# EAGLE library part NC5 (library con-neutrik_ag)
Neutrik Audio Connector XLR SERIES Stereo 1/4" jack Source: www.neutrik.com/
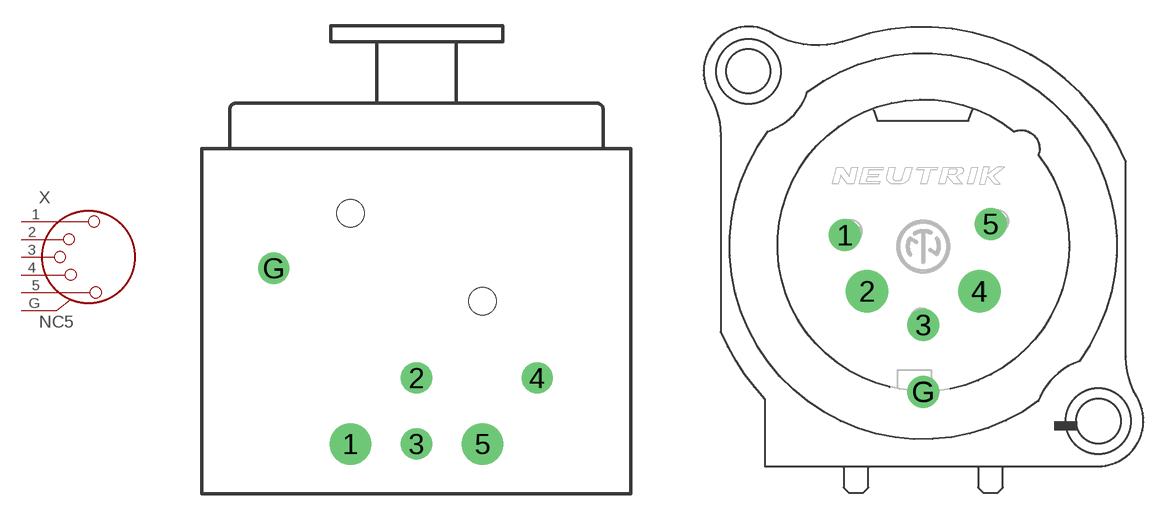
[diagram p1: symbol with the pads of NC5FAH; footprints NC5FAH, NC5MAV]

Designator prefix X

## NC5FAH (MF: FARNELL; MPN: NC5FAH; OC_FARNELL: 8020418; OC_NEWARK: 38K6010)  [NC5FAH]
1  1  pas
2  2  pas
3  3  pas
4  4  pas
5  5  pas
G  G  pas

## NC5MAV (MPN: NC5MAV; OC_FARNELL: unknown; OC_NEWARK: 86C7397)  [NC5MAV]
Pads as for NC5FAH

## NC5FBH (MPN: NC5FBH; OC_FARNELL: 8314616; OC_NEWARK: 73C3494)  [NC5FBH]
Pads as for NC5FAH

## NC5FBH-B (OC_FARNELL: unknown; OC_NEWARK: unknown)  [NC5FBH-B]
Pads as for NC5FAH

## NC5FBV (MPN: NC5FBV; OC_FARNELL: 8314632; OC_NEWARK: 87K0089)  [NC5FBV]
Pads as for NC5FAH

## NC5FGV-B (OC_FARNELL: unknown; OC_NEWARK: unknown)  [NC5FBV-B]
Pads as for NC5FAH

## NC5MAH (MF: FARNELL; MPN: NC5MAH; OC_FARNELL: 8020396; OC_NEWARK: 38K6012)  [NC5MAH]
Pads as for NC5FAH

## NC5MBH (MPN: NC5MBH; OC_FARNELL: 8314624; OC_NEWARK: 92K7339)  [NC5MBH]
Pads as for NC5FAH

## NC5MBN-B (OC_FARNELL: unknown; OC_NEWARK: unknown)  [NC5MBH-B]
Pads as for NC5FAH

## NC5MBV (MPN: NC5MBV; OC_FARNELL: 8314640; OC_NEWARK: 92K7340)  [NC5MBV]
Pads as for NC5FAH

## NC5FAV (MPN: NC5FAV; OC_FARNELL: unknown; OC_NEWARK: 94C1526)  [NC5FAV]
Pads as for NC5FAH

## Footprint NC5FAH (pad centres in mm)
Neutrik Audio Connector Source: www.neutrik.com/... 210_142701.pdf
drill 1.6 round: 1 -3.81,-3.815; 5 3.81,-3.815
drill 1.2 round: 2 0,0; 3 0,-3.815; 4 6.98,0; G -8.25,6.355
hole 1.6 at 3.81,4.445
hole 1.6 at -3.81,9.525

## Footprint NC5MAV (pad centres in mm)
Neutrik Audio Connector Source: www.neutrik.com/... 210_257601.pdf
drill 1.2 round: 1 -4.445,0.635; 3 0,-4.445; 5 3.81,1.27; G 0,-8.225
drill 1.6 round: 2 -3.175,-2.54; 4 3.175,-2.54

## Footprint NC5FBH (pad centres in mm)
Neutrik Audio Connector Source: www.neutrik.com/... 210_2351.pdf
drill 1.6 round: 1 -3.81,-3.815; 5 3.81,-3.815
drill 1.2 round: 2 0,0; 3 0,-3.815; 4 6.98,0; G -8.25,6.355
hole 1.6 at 3.81,4.445
hole 1.6 at -3.81,11.43

## Footprint NC5FBH-B (pad centres in mm)
Neutrik Audio Connector Source: www.neutrik.com/... 210_1401.pdf
drill 1.6 round: 1 -3.81,-3.815; 5 3.81,-3.815
drill 1.2 round: 2 0,0; 3 0,-3.815; 4 6.98,0; G -8.25,6.355
hole 1.6 at 3.81,4.445
hole 1.6 at -3.81,11.43

## Footprint NC5FBV (pad centres in mm)
Neutrik Audio Connector Source: www.neutrik.com/... 210_308331.pdf
drill 1.2 round: 1 3.81,0.635; 2 3.175,-2.54; 3 0,-4.445; 4 -3.175,-2.54; 5 -3.81,1.27; G 8.255,-10.16

## Footprint NC5FBV-B (pad centres in mm)
Neutrik Audio Connector Source: www.neutrik.com/... 210_136941.pdf
drill 1.2 round: 1 3.71,0.735; 2 3.075,-2.44; 3 -0.1,-4.345; 4 -3.275,-2.44; 5 -3.91,1.37; G 8.155,-10.06

## Footprint NC5MAH (pad centres in mm)
Neutrik Audio Connector Source: www.neutrik.com/... 210_197111.pdf
drill 1.6 round: 1 6.98,-5.08; 5 -6.98,-5.08
drill 1.2 round: 2 3.81,0; 3 0,-5.08; 4 -3.81,0; G 0,0
hole 1.6 at 3.81,3.81
hole 1.6 at -3.81,8.89

## Footprint NC5MBH (pad centres in mm)
Neutrik Audio Connector Source: www.neutrik.com/... 210_188961.pdf
drill 1.6 round: 1 6.98,-5.08; 5 -6.98,-5.08
drill 1.2 round: 2 3.81,0; 3 0,-5.08; 4 -3.81,0; G 0,0
hole 1.6 at 3.81,3.81
hole 1.6 at -3.81,8.89

## Footprint NC5MBH-B (pad centres in mm)
Neutrik Audio Connector Source: www.neutrik.com/... 210_26951.pdf
drill 1.6 round: 1 6.98,-5.08; 5 -6.98,-5.08
drill 1.2 round: 2 3.81,0; 3 0,-5.08; 4 -3.81,0; G 0,0
hole 1.6 at 3.81,3.81
hole 1.6 at -3.81,8.89

## Footprint NC5MBV (pad centres in mm)
Neutrik Audio Connector Source: www.neutrik.com/... 210_46671.pdf
drill 1.2 round: 1 -4.445,0.635; 3 0,-4.445; 5 3.81,1.27; G 0,-8.225
drill 1.6 round: 2 -3.175,-2.54; 4 3.175,-2.54

## Footprint NC5FAV (pad centres in mm)
Neutrik Audio Connector Source: www.neutrik.com/... 210_291701.pdf
drill 1.2 round: 1 3.81,0.635; 2 3.175,-2.54; 3 0,-4.445; 4 -3.175,-2.54; 5 -3.81,1.27; G 8.255,-10.16